# EAGLE library part ATTINY1616-MNR (library SamacSys_Parts)
Microchip ATTINY1616-MNR, 8bit AVR Microcontroller, 20MHz, 16 kB Flash, 20-Pin VQFN Source: Datasheet <http://uk.rs-online.com/web/p/products/1449518>
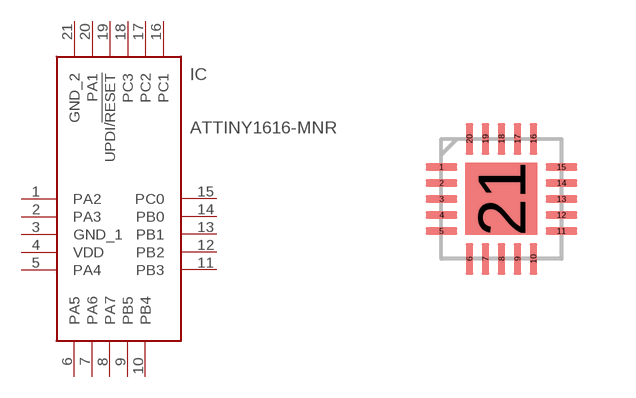
[diagram p1: symbol with the pads of QFN40P300X300X100-21N; footprint QFN40P300X300X100-21N]

Designator prefix IC

## ATTINY1616-MNR (ARROW_PART_NUMBER: ATTINY1616-MNR; DESCRIPTION: Microchip ATTINY1616-MNR, 8bit AVR Microcontroller, 20MHz, 16 kB Flash, 20-Pin VQFN; HEIGHT: 1mm; MANUFACTURER_NAME: Microchip; MANUFACTURER_PART_NUMBER: ATTINY1616-MNR)  [QFN40P300X300X100-21N]
1  PA2
2  PA3
3  GND_1  pwr
4  VDD  pwr
5  PA4
6  PA5
7  PA6
8  PA7
9  PB5
10  PB4
11  PB3
12  PB2
13  PB1
14  PB0
15  PC0
16  PC1
17  PC2
18  PC3
19  UPDI/!RESET
20  PA1
21  GND_2  pwr

## Footprint QFN40P300X300X100-21N (pad centres in mm)
20-VQFN
smd 0.8 x 0.2: 1 -1.5,0.8; 2 -1.5,0.4; 3 -1.5,0; 4 -1.5,-0.4; 5 -1.5,-0.8; 11 1.5,-0.8; 12 1.5,-0.4; 13 1.5,0; 14 1.5,0.4; 15 1.5,0.8
smd 0.2 x 0.8: 6 -0.8,-1.5; 7 -0.4,-1.5; 8 0,-1.5; 9 0.4,-1.5; 10 0.8,-1.5; 16 0.8,1.5; 17 0.4,1.5; 18 0,1.5; 19 -0.4,1.5; 20 -0.8,1.5
smd 1.8 x 1.8: 21 0,0